# EAGLE library part 6861XX188822_686114188822 (library WR-FPC)
WR-FPC 1.00 mm SMT LIF Vertical Type A KIND PROPERTIES Pitch 1 mm MATERIAL PROPERTIES Insulator Material LCP Contact Material Phosphor Bronze Contact Plating 2.032µm Tin over 1.27µm Nickel Contact Type Stamped <https://www.we-online.com/catalog/media/o162364v209%20Family_ConFPC_686126188822.jpg> Details see: https://www.we-online.com/catalog/en/em/FPC_1_00_SMT_LIF_VERTICAL_6861xx188822 Updated by Ella Wu 2020-08-25 2020(C) Wurth Elektronik
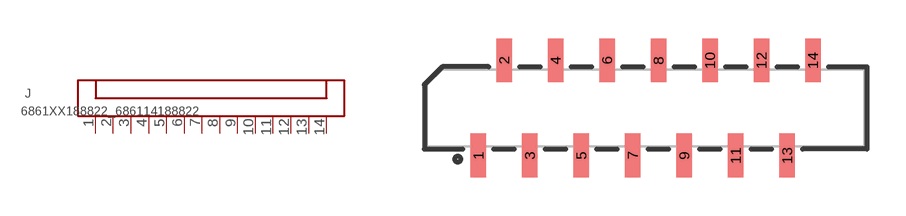
[diagram p199: symbol with the pads of 686114188822; footprint 686114188822]

Designator prefix J

## 6861XX188822_686114188822 (CONTACT-RESISTANCE: 30Ohm; DATASHEET-URL: https://www.we-online.com/catalog/datasheet/686114188822.pdf; IR: 1A; L: 17mm; PACKAGING: Tape and Reel & Mylar; PART-NUMBER: 686114188822; PINS: 14; PITCH: 1mm; TYPE: Vertical; VALUE: 686114188822; WORKING-VOLTAGE: 125V(AC))  [686114188822]
1  1  pas
2  2  pas
3  3  pas
4  4  pas
5  5  pas
6  6  pas
7  7  pas
8  8  pas
9  9  pas
10  10  pas
11  11  pas
12  12  pas
13  13  pas
14  14  pas

## Footprint 686114188822 (pad centres in mm)
WR-FPC 1.00 mm SMT LIF Vertical Type A,14 Pins
smd 0.6 x 1.7: 1 -6.5,-1.85; 2 -5.5,1.85; 3 -4.5,-1.85; 4 -3.5,1.85; 5 -2.5,-1.85; 6 -1.5,1.85; 7 -0.5,-1.85; 8 0.5,1.85; 9 1.5,-1.85; 10 2.5,1.85; 11 3.5,-1.85; 12 4.5,1.85; 13 5.5,-1.85; 14 6.5,1.85